# EAGLE library part N-MOSFET-DUAL (library cape)
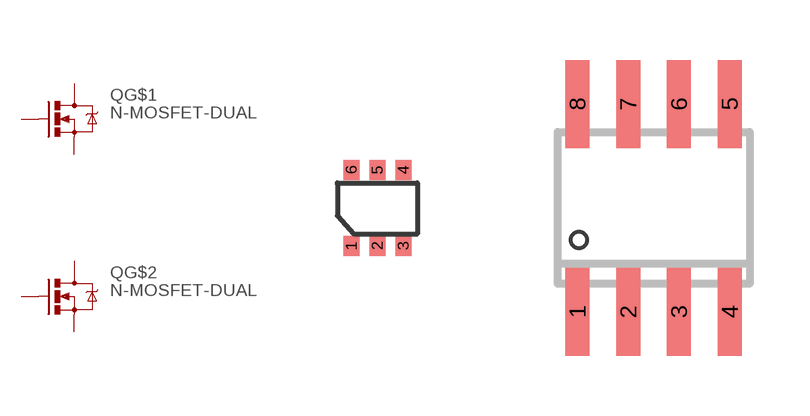
[diagram p2: symbol with the pads of TSSOP6; footprints TSSOP6, SO8]

Designator prefix Q; gates G$1=MOSFET-N G$2=MOSFET-N

## N-MOSFET-DUALTSSOP6  [TSSOP6]
1  G$1:S  pas
2  G$1:G  pas
3  G$1:D  pas
4  G$2:S  pas
5  G$2:G  pas
6  G$2:D  pas

## N-MOSFET-DUALSO8  [SO8]
1  G$1:S  pas
2  G$1:G  pas
3  G$2:S  pas
4  G$2:G  pas
5  G$2:D  pas
6  G$2:D  pas
7  G$1:D  pas
8  G$1:D  pas

## Footprint TSSOP6 (pad centres in mm)
smd 0.4 x 0.5: 1 -0.65,-0.95; 2 0,-0.95; 3 0.65,-0.95; 4 0.65,0.95; 5 0,0.95; 6 -0.65,0.95

## Footprint SO8 (pad centres in mm)
smd 0.6 x 2.2: 1 -1.905,-2.6; 2 -0.635,-2.6; 3 0.635,-2.6; 4 1.905,-2.6; 5 1.905,2.6; 6 0.635,2.6; 7 -0.635,2.6; 8 -1.905,2.6